# Altium footprint library C0603.PcbLib: 1 footprints
Each footprint in its own frame and in the unit in brackets; x right, y up, seen from the top. Pads: shape width x height; smd on the part's side, far side on the other; paste and mask are expansions set on the pad; w line width, h text height; cw(c..) or ccw(c..) is an arc to the next point about the centre after c.
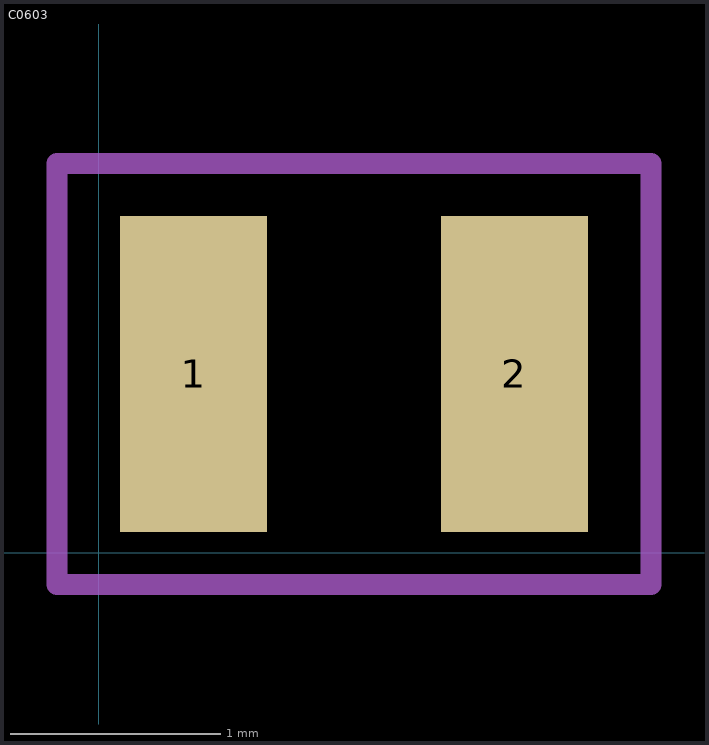
[diagram p0: the footprint, top view; thin cyan lines are the x and y axes]

## C0603 [mm]
pads (2):
  rect 0.7x1.5 smd: 1(0.45,0.85) 2(1.975,0.85)
Mechanical 3:
  lines w0.1: -0.2,-0.15 2.625,-0.15 2.625,1.85 -0.2,1.85 -0.2,1.6 -0.2,-0.15